# EAGLE library part AL422B (library AL433B)
Averlogic AL422B 3Mbit FIFO
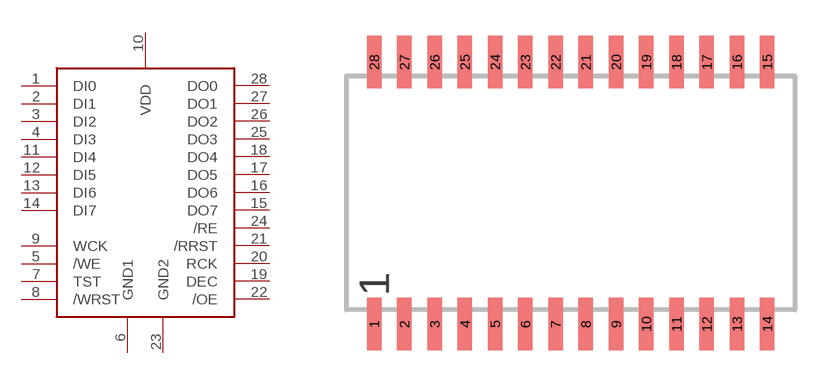
[diagram p0: symbol with the pads of SOP28; footprint SOP28]

Designator prefix -

## AL422B  [SOP28]
1  DI0
2  DI1
3  DI2
4  DI3
5  /WE
6  GND1  pwr
7  TST
8  /WRST
9  WCK
10  VDD  pwr
11  DI4
12  DI5
13  DI6
14  DI7
15  DO7
16  DO6
17  DO5
18  DO4
19  DEC
20  RCK
21  /RRST
22  /OE
23  GND2  pwr
24  /RE
25  DO3
26  DO2
27  DO1
28  DO0

## Footprint SOP28 (pad centres in mm)
SMALL OUTLINE PACKAGE
smd 0.6 x 2.2: 1 -8.255,-5.5; 2 -6.985,-5.5; 3 -5.715,-5.5; 4 -4.445,-5.5; 5 -3.175,-5.5; 6 -1.905,-5.5; 7 -0.635,-5.5; 8 0.635,-5.5; 9 1.905,-5.5; 10 3.175,-5.5; 11 4.445,-5.5; 12 5.715,-5.5; 13 6.985,-5.5; 14 8.255,-5.5; 15 8.255,5.5; 16 6.985,5.5; 17 5.715,5.5; 18 4.445,5.5; 19 3.175,5.5; 20 1.905,5.5; 21 0.635,5.5; 22 -0.635,5.5; 23 -1.905,5.5; 24 -3.175,5.5; 25 -4.445,5.5; 26 -5.715,5.5; 27 -6.985,5.5; 28 -8.255,5.5